# EAGLE library part MINI_USB5 (library Mini_USB)
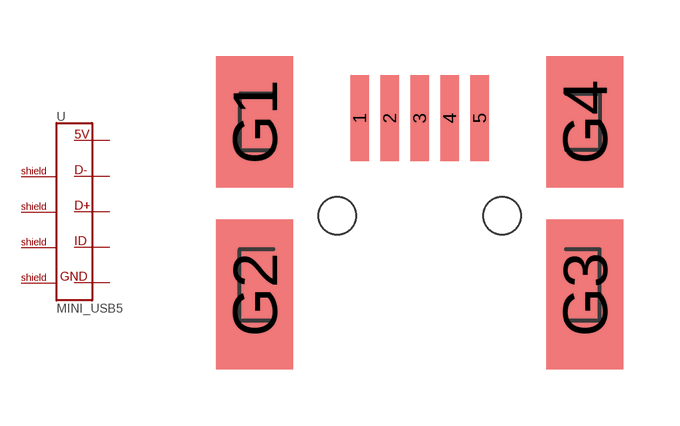
[diagram p0: symbol with the pads of USB_MINI_B_F_SMD; footprint USB_MINI_B_F_SMD]

Designator prefix -

## MINI_USB5  [USB_MINI_B_F_SMD]
1  1_5V
2  2_D-
3  3_D+
4  4_ID
5  5_GND
G1  SHIELD_1  pas
G2  SHIELD_2  pas
G3  SHIELD_3  pas
G4  SHIELD_4  pas

## Footprint USB_MINI_B_F_SMD (pad centres in mm)
smd 0.5 x 2.3: 1 -1.55,3.35; 2 -0.75,3.35; 3 0.05,3.35; 4 0.85,3.35; 5 1.65,3.35
smd 2.05 x 3.5: G1 -4.35,3.25; G4 4.45,3.25
smd 2.05 x 4: G2 -4.35,-1.35; G3 4.45,-1.35
hole 1 at -2.15,0.75
hole 1 at 2.25,0.75